# EAGLE library part REG_LT3032 (library DSP_PID)
+/-5V Dual 150mA Positive/Negative Low Noise Low Dropout Linear Regulator
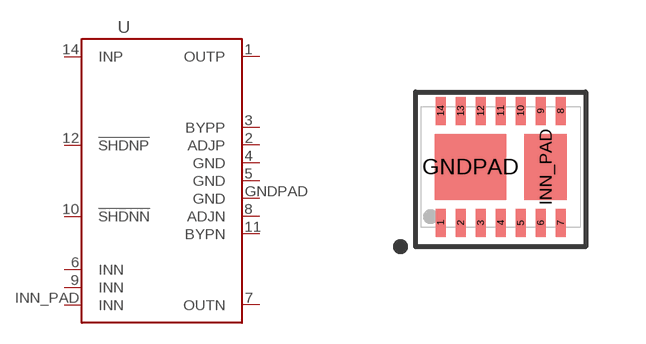
[diagram p8: symbol with the pads of DFN-14_SPLITPAD; footprint DFN-14_SPLITPAD]

Designator prefix U

## REG_LT3032 (MFG: LINEAR TECH; MPN: LT3032EDE-5; PRICE: 4.79; VENDOR: DIGIKEY; VPN: LT3032EDE-5#PBF-ND)  [DFN-14_SPLITPAD]
1  OUTP  pas
2  ADJP  pas
3  BYPP  pas
4  GND  pas
5  GND  pas
6  INN  pas
7  OUTN  pas
8  ADJN  pas
9  INN  pas
10  !SHDNN  pas
11  BYPN  pas
12  !SHDNP  pas
14  INP  pas
GNDPAD  GND  pas
INN_PAD  INN  pas

## Footprint DFN-14_SPLITPAD (pad centres in mm)
14-PIN DFN 3X4 0.5MM PITCH, SPLIT PAD FOR LT3032 REGULATOR
smd 0.25 x 0.7: 1 -1.5,-1.4; 2 -1,-1.4; 3 -0.5,-1.4; 4 0,-1.4; 5 0.5,-1.4; 6 1,-1.4; 7 1.5,-1.4; 8 1.5,1.4; 9 1,1.4; 10 0.5,1.4; 11 0,1.4; 12 -0.5,1.4; 13 -1,1.4; 14 -1.5,1.4
smd 1.78 x 1.65: GNDPAD -0.75,0
smd 1.07 x 1.65: INN_PAD 1.125,0